# EAGLE library part WE-GDT_2SW (library Wurth_Elektronik_Passive_rev16a)
SMD Gate Drive Transformer WE-GDT Characteristics - small form factor EP5 - 1 or 2 secondary windings - 4 different turn rations - 1500VDC insulation test voltage - operating voltage up to 80V Applications -- Gate Drive -- Signal -- Power -- Synchronous Flyback <http://katalog.we-online.de/media/images/eisos/IndGDT_MID_pf2.jpg> Details see: http://katalog.we-online.de/en/pbs/WE-GDT? Updated by Dan Xu 2014-05-19 2014 (C) Wurth Elektronik
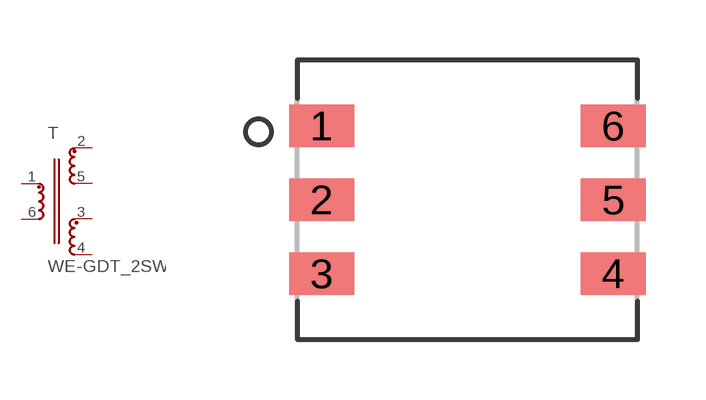
[diagram p11: symbol with the pads of WE_EP5_SMD_6PIN; footprint WE_EP5_SMD_6PIN]

Designator prefix T

## WE-GDT_2SW_760301103  [WE_EP5_SMD_6PIN]
1  1  pas
2  2  pas
3  4  pas
4  5  pas
5  3  pas
6  6  pas

## WE-GDT_2SW_760301104  [WE_EP5_SMD_6PIN]
Pads as for WE_EP5_SMD_6PIN

## WE-GDT_2SW_760301105  [WE_EP5_SMD_6PIN]
Pads as for WE_EP5_SMD_6PIN

## Footprint WE_EP5_SMD_6PIN (pad centres in mm)
Transformer, EP5 SMD 6 Pin
smd 1.63 x 1.07: 1 -3.645,1.85; 2 -3.645,0; 3 -3.645,-1.85; 4 3.645,-1.85; 5 3.645,0; 6 3.645,1.85